# Altium schematic symbol library 二极管.SchLib: 6 symbols
Pins are listed as number, name and electrical type; pins without a type are passive.

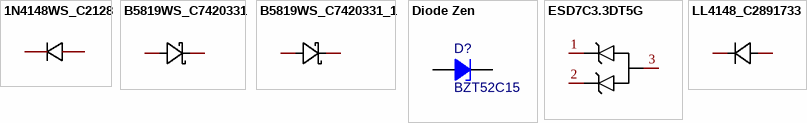
[diagram p0: symbols 1N4148WS_C2128 to LL4148_C2891733]

## 1N4148WS_C2128
designator D??  (value not drawn)
Manufacturer: CJ(江苏长电/长晶); Symbol: 1N4148WS T4; Add into BOM: yes; Diode Configuration: 独立式; Forward Voltage (Vf@If): 1.25V@150mA; Reverse Voltage (Vr): 100V; Average Rectified Current (Io): 150mA; Power Dissipation: 200mW; Reverse Leakage Current: 1uA@75V; Reverse Recovery Time (trr): 4ns; Name: 1N4148WS; Device: 1N4148WS_C2128; LCSC Part Name: 电压:100V 电流:150mA; Supplier Part: C2128; Manufacturer Part: 1N4148WS; Supplier Footprint: SOD-323; JLCPCB Part Class: Basic Part; Datasheet: https://atta.szlcsc.com/upload/public/pdf/source/20140809/1457707208178.pdf; Supplier: LCSC; Convert to PCB: yes; Operating Temperature: -
footprint SOD-323_L1.8-W1.3-LS2.5-RD
3D model SOD-323_L1.7-W1.3-H1.1-LS2.5
pins: 1 K, 2 A

## B5819WS_C7420331
designator D??  (value not drawn)
Manufacturer: 宏迦橙; Add into BOM: yes; Diode Configuration: 独立式; Reverse Voltage (Vr): 40V; Average Rectified Current (Io): 1A; Forward Voltage (Vf@If): 600mV@1.0A; Reverse Leakage Current (Ir): 1mA@40V; Peak forward surge current: 10A; Name: B5819WS; Symbol: B5819WS_C7420331; Device: B5819WS_C7420331; LCSC Part Name: 电压:40V 电流:1A; Supplier Part: C7420331; Manufacturer Part: B5819WS; Supplier Footprint: SOD-323; JLCPCB Part Class: Extended Part; Datasheet: https://atta.szlcsc.com/upload/public/pdf/source/20230828/03CA0F4F90DAE368A7153B7B5E4D0651.pdf; Supplier: LCSC; Convert to PCB: yes
footprint SOD-323_L1.7-W1.3-LS2.5-FD
3D model SOD-323_L1.7-W1.3-LS2.5-FD
pins: 1 A, 2 K

## B5819WS_C7420331_1
designator D??, comment B5819WS_C7420331  (value not drawn)
Manufacturer: 宏迦橙; Add into BOM: yes; Diode Configuration: 独立式; Reverse Voltage (Vr): 40V; Average Rectified Current (Io): 1A; Forward Voltage (Vf@If): 600mV@1.0A; Reverse Leakage Current (Ir): 1mA@40V; Peak forward surge current: 10A; Name: B5819WS; Symbol: B5819WS_C7420331; Device: B5819WS_C7420331; LCSC Part Name: 电压:40V 电流:1A; Supplier Part: C7420331; Manufacturer Part: B5819WS; Supplier Footprint: SOD-323; JLCPCB Part Class: Extended Part; Datasheet: https://atta.szlcsc.com/upload/public/pdf/source/20230828/03CA0F4F90DAE368A7153B7B5E4D0651.pdf; Supplier: LCSC; Convert to PCB: yes
footprint SOD-323_L1.7-W1.3-LS2.5-FD
3D model SOD-323_L1.7-W1.3-LS2.5-FD
pins: 1 A, 2 K

## Diode Zen
designator D?, comment BZT52C15
稳压二极管 齐纳二极管  Zener Diode; Published: 8-Jun-2000; Revision: July-2002: Re-released for DXP Platform.; Publisher: Altium Limited; Price(RMB): 0.000
footprint DIODE-0.7 (Zener Diode; 2 Leads)
footprint DIODE-0.4
footprint SOD-87[LL-41] (MELF Diode, 2-Leads, Body 5.00x2.49mm, IPC Medium Density)
footprint CD4521-1808
footprint SOD-80[LL-34] (MELF Diode, 2-Leads, Body 3.55x1.65mm, IPC Medium Density)
footprint SOD-123-FL (SOD Diode;2.70mm W X 1.60mm L X 1.35mm H body)
footprint SOD-123-L (SOD Diode;2.70mm W X 1.60mm L X 1.35mm H body)
footprint SOD-123-M (SOD Diode;2.70mm W X 1.60mm L X 1.35mm H body)
footprint SOD-323 (SOD Diode;1.65mm W X 1.24mm L X 1.16mm H body)
footprint SOD-523-L (SODFL Diode;1.20mm W X 0.80mm L X 0.70mm H body)
footprint SOD-523-M (SODFL Diode;1.20mm W X 0.80mm L X 0.70mm H body)
pins: A, K

## ESD7C3.3DT5G
designator D??  (value not drawn)
Manufacturer: onsemi(安森美); Add into BOM: yes; Polarity: 单向; Reverse Stand-Off Voltage (Vrwm): 3.3V; Breakdown Voltage (VBR): 5V; Name: ESD7C3.3DT5G; Symbol: ESD7C3.3DT5G; Device: ESD7C3.3DT5G; LCSC Part Name: 单向ESD; Supplier Part: C233386; Manufacturer Part: ESD7C3.3DT5G; Supplier Footprint: SOT-723-3; JLCPCB Part Class: Extended Part; Datasheet: https://atta.szlcsc.com/upload/public/pdf/source/20230915/2891BDCF27609CE91537B924A038180E.pdf; Supplier: LCSC; Convert to PCB: yes
footprint SOT-723_L1.2-W0.8-P0.40-LS1.2-BR
3D model SOT-723-3P_L1.2-W0.8-H0.6-LS1.2-P0.40
pins: 1, 2, 3

## LL4148_C2891733
designator D??  (value not drawn)
Manufacturer: YONGYUTAI(永裕泰); Name: LL4148; Add into BOM: yes; Forward Voltage (Vf@If): 1V@10mA; Reverse Voltage (Vr): 75V; Average Rectified Current (Io): 150mA; Power Dissipation: 500mW; Reverse Leakage Current: 5uA@75V; Reverse Recovery Time (trr): 4ns; Symbol: LL4148_C2891733; Device: LL4148_C2891733; LCSC Part Name: 电压:75V 电流:150mA; Supplier Part: C2891733; Manufacturer Part: LL4148; Supplier Footprint: LL-34; JLCPCB Part Class: Extended Part; Datasheet: https://atta.szlcsc.com/upload/public/pdf/source/20210901/131A9B9B28E410A4B42524A37BDC743F.pdf; Supplier: LCSC; Convert to PCB: yes; Diode Configuration: -; Operating Temperature: +175℃@(Tj)
footprint LL-34_L3.4-W1.5-RD
3D model SOD-80_BD1.5-L3.5
footprint SOD-80_L3.5-W1.5-RD
pins: 1 K, 2 A